# Altium integrated library 4R7_X7R_1206_GMK316AB7475MLHT.IntLib: 1 symbol
Pins are listed as number, name and electrical type; pins without a type are passive.

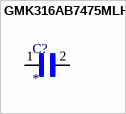
[diagram p0: symbol GMK316AB7475MLHT]

## GMK316AB7475MLHT
designator C?
0; MP: GMK316AB7475MLHT; Package: None; Price: None; Value: *; Availability: Unavailable
footprint CAPC3216X180N
pins: 1, 2